# Altium schematic symbol library Knopka.SchLib: 71 symbols
Pins are listed as number, name and electrical type; pins without a type are passive.

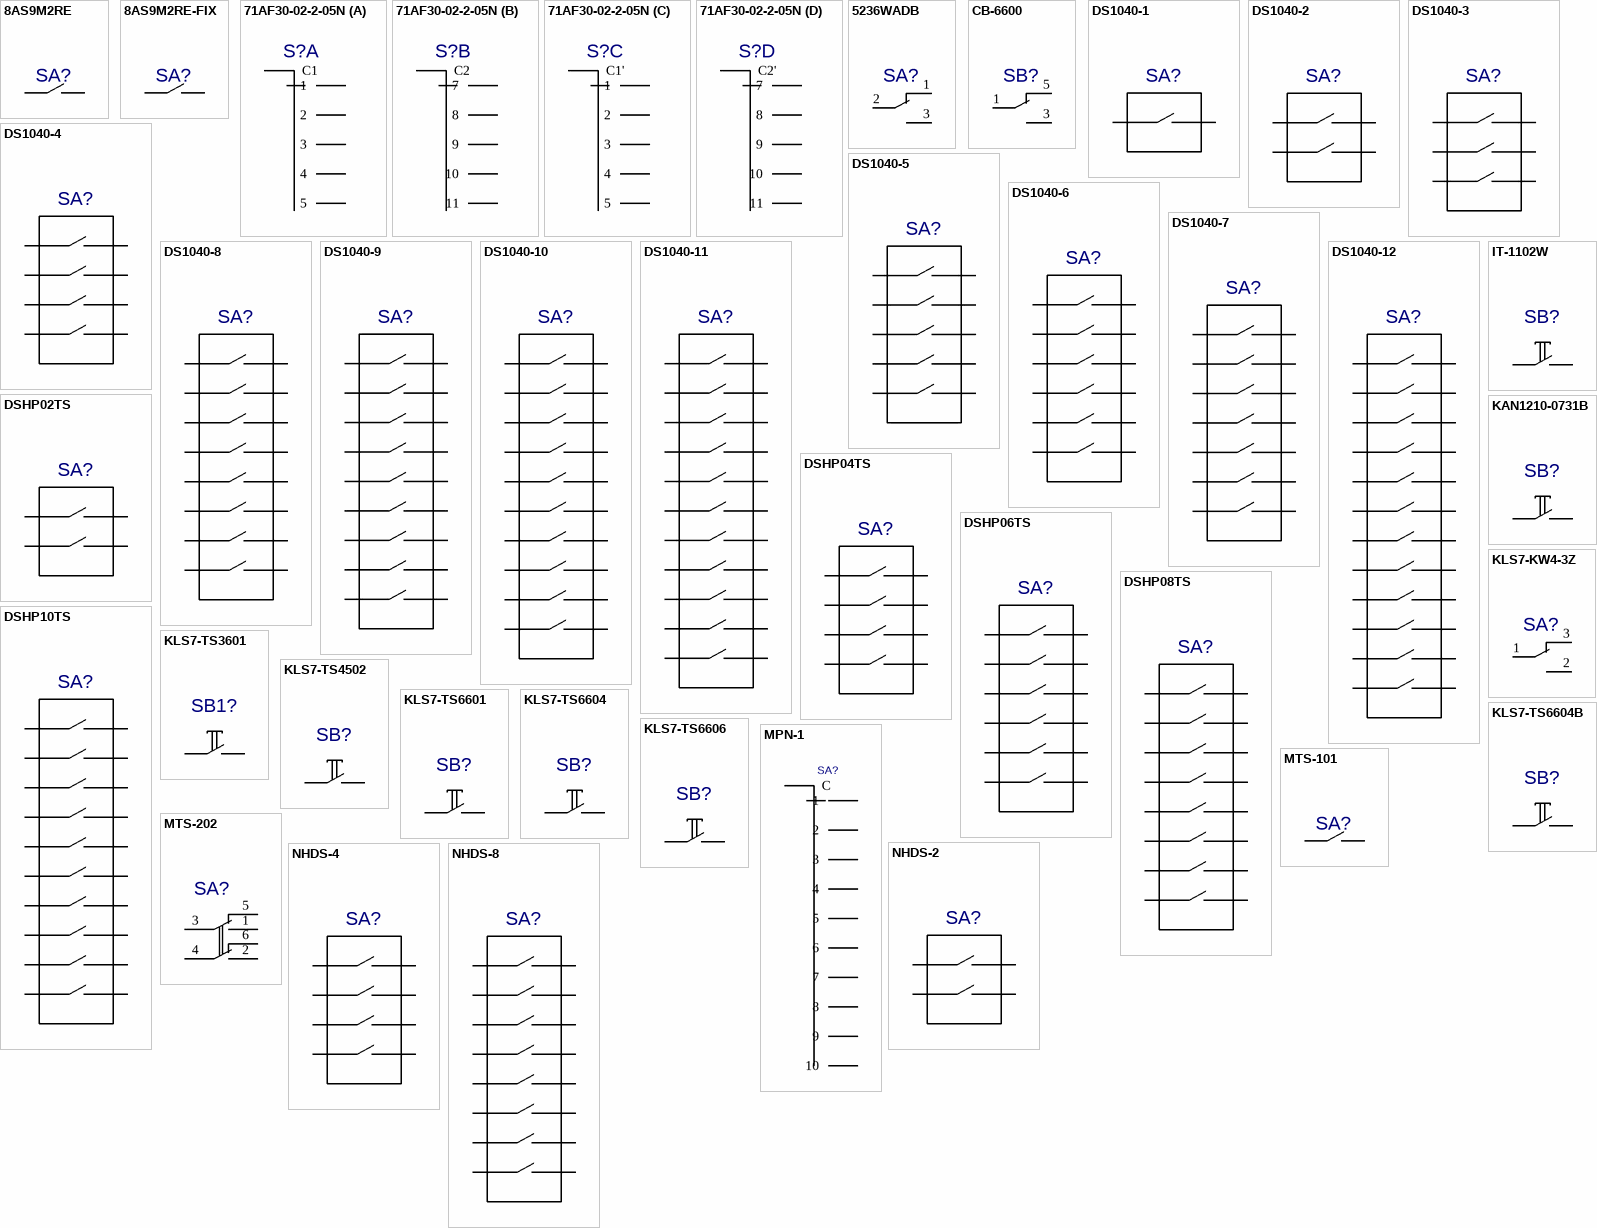
[diagram p0: symbols 8AS9M2RE to NHDS-8]

## 8AS9M2RE
designator SA?  (value not drawn)
Author: pcbdesigner.ru; Value: *
footprint 8AS9M2RE
pins: 1, 2

## 8AS9M2RE-FIX
designator SA?  (value not drawn)
Author: pcbdesigner.ru; Value: *
footprint 8AS9M2RE
pins: 1, 2

## 71AF30-02-2-05N
designator S?  (value not drawn)
Value: *
footprint 71AF30-02_71AF30-02-2-05N(Primary)
pins on every part: 1/6 hidden, 1/12 hidden, 2/6 hidden, 2/12 hidden
part A pins: 1/1 1, 1/2 2, 1/3 3, 1/4 4, 1/5 5, 1/C1 C1
part B pins: 1/7 7, 1/8 8, 1/9 9, 1/10 10, 1/11 11, 1/C2 C2
part C pins: 2/1 1, 2/2 2, 2/3 3, 2/4 4, 2/5 5, 2/C3 C1'
part D pins: 2/7 7, 2/8 8, 2/9 9, 2/10 10, 2/11 11, 2/C4 C2'

## 5236WADB
designator SA?  (value not drawn)
Author: pcbdesigner.ru; Value: *
footprint 5236WADB
pins: 1, 2, 3

## CB-6600
designator SB?  (value not drawn)
Author: pcbdesigner.ru; Value: *
footprint CB-6600
pins: 1, 2 hidden, 3 2, 4 hidden, 5 3

## DS1040-1
designator SA?  (value not drawn)
Author: pcbdesigner.ru; Value: *
footprint DS1040-1
pins: 1, 2

## DS1040-2
designator SA?  (value not drawn)
Author: pcbdesigner.ru; Value: *
footprint DS1040-2
pins: 1, 2, 3, 4

## DS1040-3
designator SA?  (value not drawn)
Author: pcbdesigner.ru; Value: *
footprint DS1040-3
pins: 1, 2, 3, 4, 5, 6

## DS1040-4
designator SA?  (value not drawn)
Author: pcbdesigner.ru; Value: *
footprint DS1040-4
pins: 1, 2, 3, 4, 5, 6, 7, 8

## DS1040-5
designator SA?  (value not drawn)
Author: pcbdesigner.ru; Value: *
footprint DS1040-5
pins: 1, 2, 3, 4, 5, 6, 7, 8, 9, 10

## DS1040-6
designator SA?  (value not drawn)
Author: pcbdesigner.ru; Value: *
footprint DS1040-6
pins: 1, 2, 3, 4, 5, 6, 7, 8, 9, 10, 11, 12

## DS1040-7
designator SA?  (value not drawn)
Author: pcbdesigner.ru; Value: *
footprint DS1040-7
pins: 1, 2, 3, 4, 5, 6, 7, 8, 9, 10, 11, 12, 13, 14

## DS1040-8
designator SA?  (value not drawn)
Author: pcbdesigner.ru; Value: *
footprint DS1040-8
pins: 1, 2, 3, 4, 5, 6, 7, 8, 9, 10, 11, 12, 13, 14, 15, 16

## DS1040-9
designator SA?  (value not drawn)
Author: pcbdesigner.ru; Value: *
footprint DS1040-9
pins: 1, 2, 3, 4, 5, 6, 7, 8, 9, 10, 11, 12, 13, 14, 15, 16, 17, 18

## DS1040-10
designator SA?  (value not drawn)
Author: pcbdesigner.ru; Value: *
footprint DS1040-10
pins: 1, 2, 3, 4, 5, 6, 7, 8, 9, 10, 11, 12, 13, 14, 15, 16, 17, 18, 19, 20

## DS1040-11
designator SA?  (value not drawn)
Author: pcbdesigner.ru; Value: *
footprint DS1040-11
pins: 1, 2, 3, 4, 5, 6, 7, 8, 9, 10, 11, 12, 13, 14, 15, 16, 17, 18, 19, 20, 21, 22

## DS1040-12
designator SA?  (value not drawn)
Author: pcbdesigner.ru; Value: *
footprint DS1040-12
pins: 1, 2, 3, 4, 5, 6, 7, 8, 9, 10, 11, 12, 13, 14, 15, 16, 17, 18, 19, 20, 21, 22, 23, 24

## DSHP02TS
designator SA?  (value not drawn)
Author: pcbdesigner.ru; Value: *
footprint DSHP02TS
pins: 1, 2, 3, 4

## DSHP04TS
designator SA?  (value not drawn)
Author: pcbdesigner.ru; Value: *
footprint DSHP04TS
pins: 1, 2, 3, 4, 5, 6, 7, 8

## DSHP06TS
designator SA?  (value not drawn)
Author: pcbdesigner.ru; Value: *
footprint DSHP06TS
pins: 1, 2, 3, 4, 5, 6, 7, 8, 9, 10, 11, 12

## DSHP08TS
designator SA?  (value not drawn)
Author: pcbdesigner.ru; Value: *
footprint DSHP08TS
pins: 1, 2, 3, 4, 5, 6, 7, 8, 9, 10, 11, 12, 13, 14, 15, 16

## DSHP10TS
designator SA?  (value not drawn)
Author: pcbdesigner.ru; Value: *
footprint DSHP10TS
pins: 1, 2, 3, 4, 5, 6, 7, 8, 9, 10, 11, 12, 13, 14, 15, 16, 17, 18, 19, 20

## IT-1102W
designator SB?  (value not drawn)
Value: *
footprint IT-1102W_Primary
footprint IT-1102W_Primary_1
pins: 1 2, 2 hidden, 3 1, 4 hidden

## KAN1210-0731B
designator SB?  (value not drawn)
Value: *
footprint KAN1210-0731B
pins: 1, 2 hidden, 3 2, 4 hidden

## KLS7-KW4-3Z
designator SA?  (value not drawn)
Author: pcbdesigner.ru; Value: *
footprint KLS7-KW4-3Z
pins: 1 2, 2 3, 3 1

## KLS7-TS3601
designator SB1?  (value not drawn)
Value: *
footprint KLS7-TS3601
pins: 1, 2

## KLS7-TS4502
designator SB?  (value not drawn)
Value: *
footprint KLS7-TS4502
pins: 1, 2 hidden, 3 2, 4 hidden

## KLS7-TS6601
designator SB?  (value not drawn)
Value: *
footprint KLS7-TS6601
pins: 1, 2 hidden, 3 2, 4 hidden

## KLS7-TS6604
designator SB?  (value not drawn)
Value: *
footprint KLS7-TS6604
pins: 1, 2 hidden, 3 2, 4 hidden

## KLS7-TS6604B
designator SB?  (value not drawn)
Value: *
footprint KLS7-TS6604B
pins: 1, 2 hidden, 3 2, 4 hidden

## KLS7-TS6606
designator SB?  (value not drawn)
Value: *
footprint TACT_SWITCH_R
pins: 1, 2

## MPN-1
designator SA?  (value not drawn)
Value: *
footprint MPN-1
pins: 1, 2, 3, 4, 5, 6, 7, 8, 9, 10, 11 C

## MTS-101
designator SA?  (value not drawn)
Author: pcbdesigner.ru; Value: *
footprint MTS-101
pins: 1, 2

## MTS-202
designator SA?  (value not drawn)
Value: {Value}; Author: pcbdesigner.ru
footprint MTS-202
pins: 1 2, 2 5, 3 1, 4, 5 3, 6

## NHDS-2
designator SA?  (value not drawn)
Author: pcbdesigner.ru; Value: *
footprint NHDS-2
pins: 1, 2, 3, 4

## NHDS-4
designator SA?  (value not drawn)
Author: pcbdesigner.ru; Value: *
footprint NHDS-4
pins: 1, 2, 3, 4, 5, 6, 7, 8

## NHDS-8
designator SA?  (value not drawn)
Author: pcbdesigner.ru; Value: *
footprint NHDS-8
pins: 1, 2, 3, 4, 5, 6, 7, 8, 9, 10, 11, 12, 13, 14, 15, 16

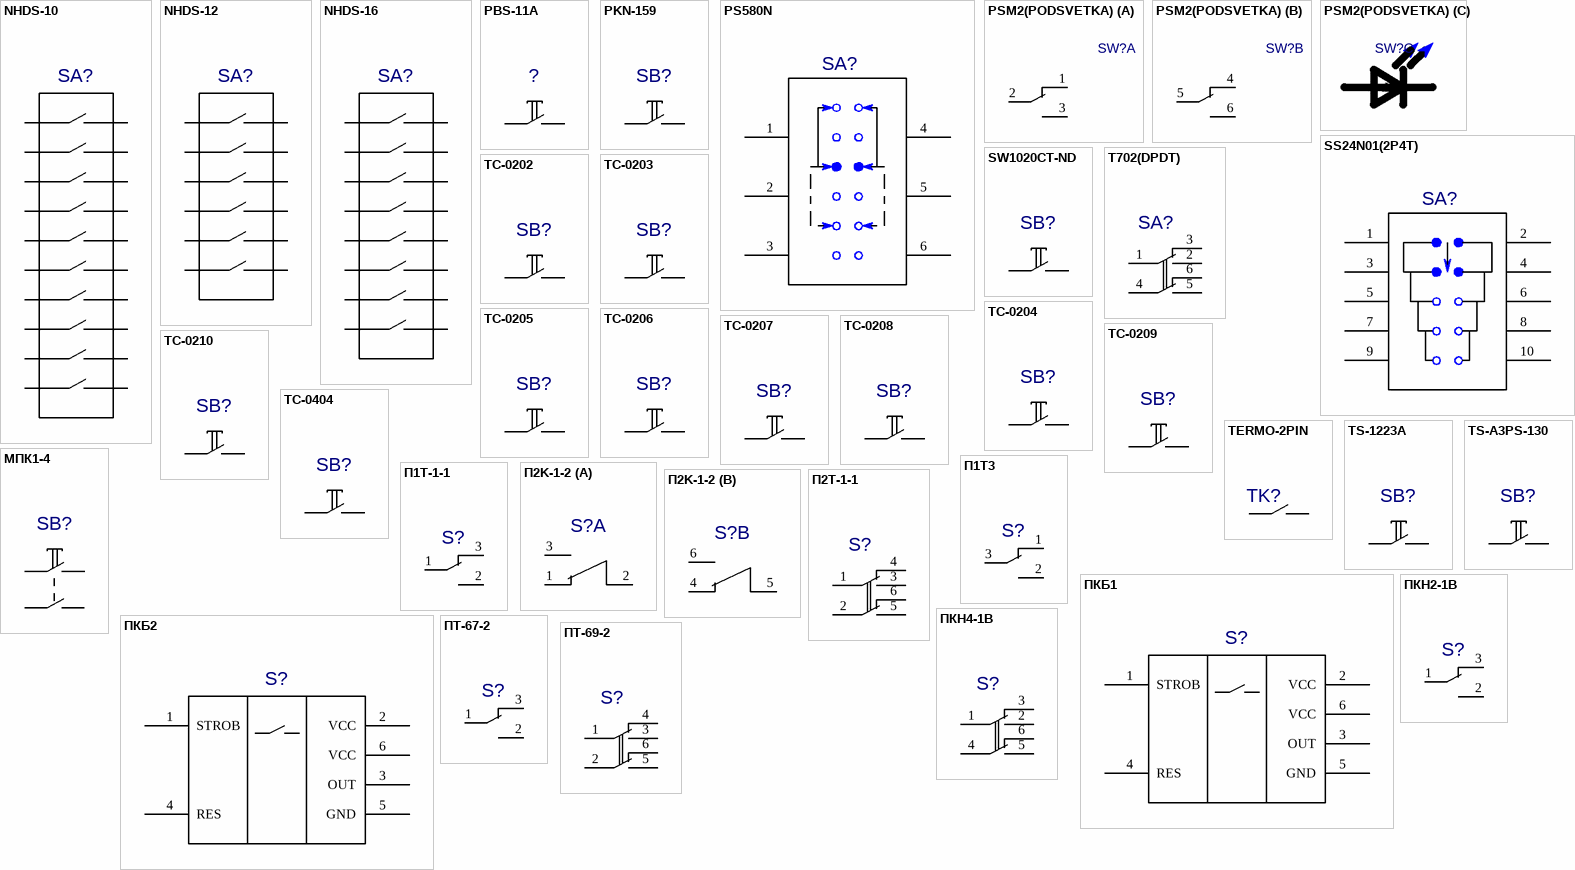
[diagram p1: symbols NHDS-10 to ПТ-69-2]

## NHDS-10
designator SA?  (value not drawn)
Author: pcbdesigner.ru; Value: *
footprint NHDS-10
pins: 1, 2, 3, 4, 5, 6, 7, 8, 9, 10, 11, 12, 13, 14, 15, 16, 17, 18, 19, 20

## NHDS-12
designator SA?  (value not drawn)
Author: pcbdesigner.ru; Value: *
footprint NHDS-6
pins: 1, 2, 3, 4, 5, 6, 7, 8, 9, 10, 11, 12

## NHDS-16
designator SA?  (value not drawn)
Author: pcbdesigner.ru; Value: *
footprint NHDS-8
pins: 1, 2, 3, 4, 5, 6, 7, 8, 9, 10, 11, 12, 13, 14, 15, 16

## PBS-11A
designator ?  (value not drawn)
Value: *
footprint PBS-11A
pins: 1, 2

## PKN-159
designator SB?  (value not drawn)
Value: *
footprint PKN-159_Primary
footprint PKN-159_Primary_1
pins: 1, 2, 3 hidden, 4 hidden

## PS580N
designator SA?  (value not drawn)
Value: *
footprint PS580N
pins: 1, 2, 3, 4, 5, 6

## PSM2(PODSVETKA)
designator SW?  (value not drawn)
Value: {Value}; Author: pcbdesigner.ru
footprint PSM2(PODSVETKA)_PSM2(PODSVETKA)(Primary)
part A pins: 1, 2, 3
part B pins: 4 1, 5 2, 6 3
part C pins: LED_MINUS K, LED_PLUS A

## SS24N01(2P4T)
designator SA?  (value not drawn)
Value: *
footprint SS24N01(2P4T)
pins: 1, 2, 3, 4, 5, 6, 7, 8, 9, 10

## SW1020CT-ND
designator SB?  (value not drawn)
Value: *
footprint SW1020CT-ND
pins: 1, 2

## T702(DPDT)
designator SA?  (value not drawn)
Value: {Value}; Author: pcbdesigner.ru
footprint T702(DPDT)
pins: 1, 2, 3, 4, 5, 6

## TC-0202
designator SB?  (value not drawn)
Value: *
footprint TACT_SWITCH_R
pins: 1, 2

## TC-0203
designator SB?  (value not drawn)
Value: *
footprint TACT_SWITCH_R
pins: 1, 2

## TC-0204
designator SB?  (value not drawn)
Value: *
footprint TACT_SWITCH_R
pins: 1, 2

## TC-0205
designator SB?  (value not drawn)
Value: *
footprint TACT_SWITCH_R
pins: 1, 2

## TC-0206
designator SB?  (value not drawn)
Value: *
footprint TACT_SWITCH_R
pins: 1, 2

## TC-0207
designator SB?  (value not drawn)
Value: *
footprint TACT_SWITCH_R
pins: 1, 2

## TC-0208
designator SB?  (value not drawn)
Value: *
footprint TACT_SWITCH_R
pins: 1, 2

## TC-0209
designator SB?  (value not drawn)
Value: *
footprint TACT_SWITCH_R
pins: 1, 2

## TC-0210
designator SB?  (value not drawn)
Value: *
footprint TACT_SWITCH_R
pins: 1, 2

## TC-0404
designator SB?  (value not drawn)
Value: *
footprint TC-0404
pins: 1, 2

## TERMO-2PIN
designator TK?  (value not drawn)
Author: pcbdesigner.ru; Value: *
footprint TERMO-2PIN
pins: 1, 2

## TS-1223A
designator SB?  (value not drawn)
Value: *
footprint TS-1223A
pins: 1, 2

## TS-A3PS-130
designator SB?  (value not drawn)
Value: *
footprint TS-A3PS-130
pins: 1, 3 2

## МПК1-4
designator SB?  (value not drawn)
Value: *
footprint МПК1-4_МПК1-4(Primary)
pins: 1 3, 2 4, 3 1, 4 2

## П1Т3
designator S?  (value not drawn)
Author: pcbdesigner.ru; Value: *
footprint ПТ-67-2
pins: 1, 2, 3

## П1Т-1-1
designator S?  (value not drawn)
Author: pcbdesigner.ru; Value: *
footprint ПТ-67-2
pins: 1, 2, 3

## П2K-1-2
designator S?  (value not drawn)
Value: *
footprint P2K-1-2
part A pins: 1, 2, 3
part B pins: 4 1, 5 2, 6 3

## П2Т-1-1
designator S?  (value not drawn)
Value: {Value}; Author: pcbdesigner.ru
footprint ПТ-69-2
pins: 1, 2, 3, 4, 5, 6

## ПКБ1
designator S?  (value not drawn)
Value: *
footprint ПКБ1
pins: 1 STROB, 2 VCC, 3 OUT, 4 RES, 5 GND, 6 VCC

## ПКБ2
designator S?  (value not drawn)
Value: *
footprint ПКБ1
pins: 1 STROB, 2 VCC, 3 OUT, 4 RES, 5 GND, 6 VCC

## ПКН2-1В
designator S?  (value not drawn)
Author: pcbdesigner.ru; Value: *
footprint ПКН2-1В
pins: 1, 2, 3

## ПКН4-1В
designator S?  (value not drawn)
Value: {Value}; Author: pcbdesigner.ru
footprint ПКН4-1В
pins: 1, 2, 3, 4, 5, 6

## ПТ-67-2
designator S?  (value not drawn)
Author: pcbdesigner.ru; Value: *
footprint ПТ-67-2
pins: 1, 2, 3

## ПТ-69-2
designator S?  (value not drawn)
Value: {Value}; Author: pcbdesigner.ru
footprint ПТ-69-2
pins: 1, 2, 3, 4, 5, 6